# Altium schematic symbol library 2019-10-21_20-18-25.SchLib: 2 symbols
Pins are listed as number, name and electrical type; pins without a type are passive.

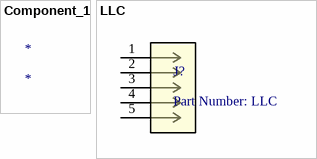
[diagram p0: symbols Component_1 to LLC]

## Component_1
designator *

## LLC
designator J?, comment Part Number: LLC
No Description Available; Vendor: Molex Connector Corporation; Built_By: EMA_Don; Copyright: Copyright (C) 2016 Accelerated Designs. All rights reserved; Manufacturer_Part_Number: LLC; RefDes: RefDes; Type: DEV; Value: Value
footprint CON00679_5
pins: 1, 2, 3, 4, 5